# Altium schematic symbol library LM1117.SchLib: 1 symbol
Pins are listed as number, name and electrical type; pins without a type are passive.

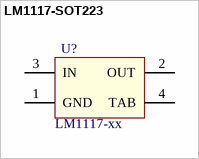
[diagram p0: symbol LM1117-SOT223]

## LM1117-SOT223
designator U?  value LM1117-xx  (hidden comment: LM1117-SOT223)
footprint SOT-223
pins: 1 GND, 2 OUT, 3 IN, 4 TAB